# Altium integrated library TSOT-23-5.IntLib: 1 symbol
Pins are listed as number, name and electrical type; pins without a type are passive.

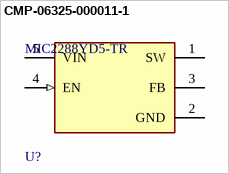
[diagram p0: symbol CMP-06325-000011-1]

## CMP-06325-000011-1
designator U?, comment MIC2288YD5-TR
IC REG BOOST ADJ 1.2A TSOT23-5; Number of Outputs: 1; Output Current: 1A; Operating Supply Voltage: 10V; Switching Frequency: 1.2MHz; Output Configuration: Positive; Max Output Voltage: 34V; Min Input Voltage: 2.5V; Synchronous Rectifier: No; Output Type: Adjustable; Max Input Voltage: 10V; Width: 1.6mm; Max Output Current: 1A; Packaging: Tape and Reel; Max Operating Temperature: 125°C; Min Operating Temperature: -40°C; Package Quantity: 3000; Height: 0.87mm; Output Voltage: 34V; Min Output Voltage: 2.5V; Lead Free: Lead Free; Length: 2.9mm; REACH SVHC: No SVHC; Radiation Hardening: No; Min Supply Voltage: 2.5V; Case/Package: TSOT; Number of Pins: 5; Mount: Surface Mount; Topology: Boost
footprint FP-TSOT-5LD-PL-1-IPC_C
footprint FP-TSOT-5LD-PL-1-MFG
footprint FP-TSOT-5LD-PL-1-IPC_A
footprint FP-TSOT-5LD-PL-1-IPC_B
pins: 1 SW (power), 2 GND (power), 3 FB, 4 EN (in), 5 VIN (power)